# Altium footprint library dg.PcbLib: 57 footprints (part 1 of 4)
Each footprint in its own frame and in the unit in brackets; x right, y up, seen from the top. Pads: shape width x height; smd on the part's side, far side on the other; paste and mask are expansions set on the pad; w line width, h text height; cw(c..) or ccw(c..) is an arc to the next point about the centre after c.
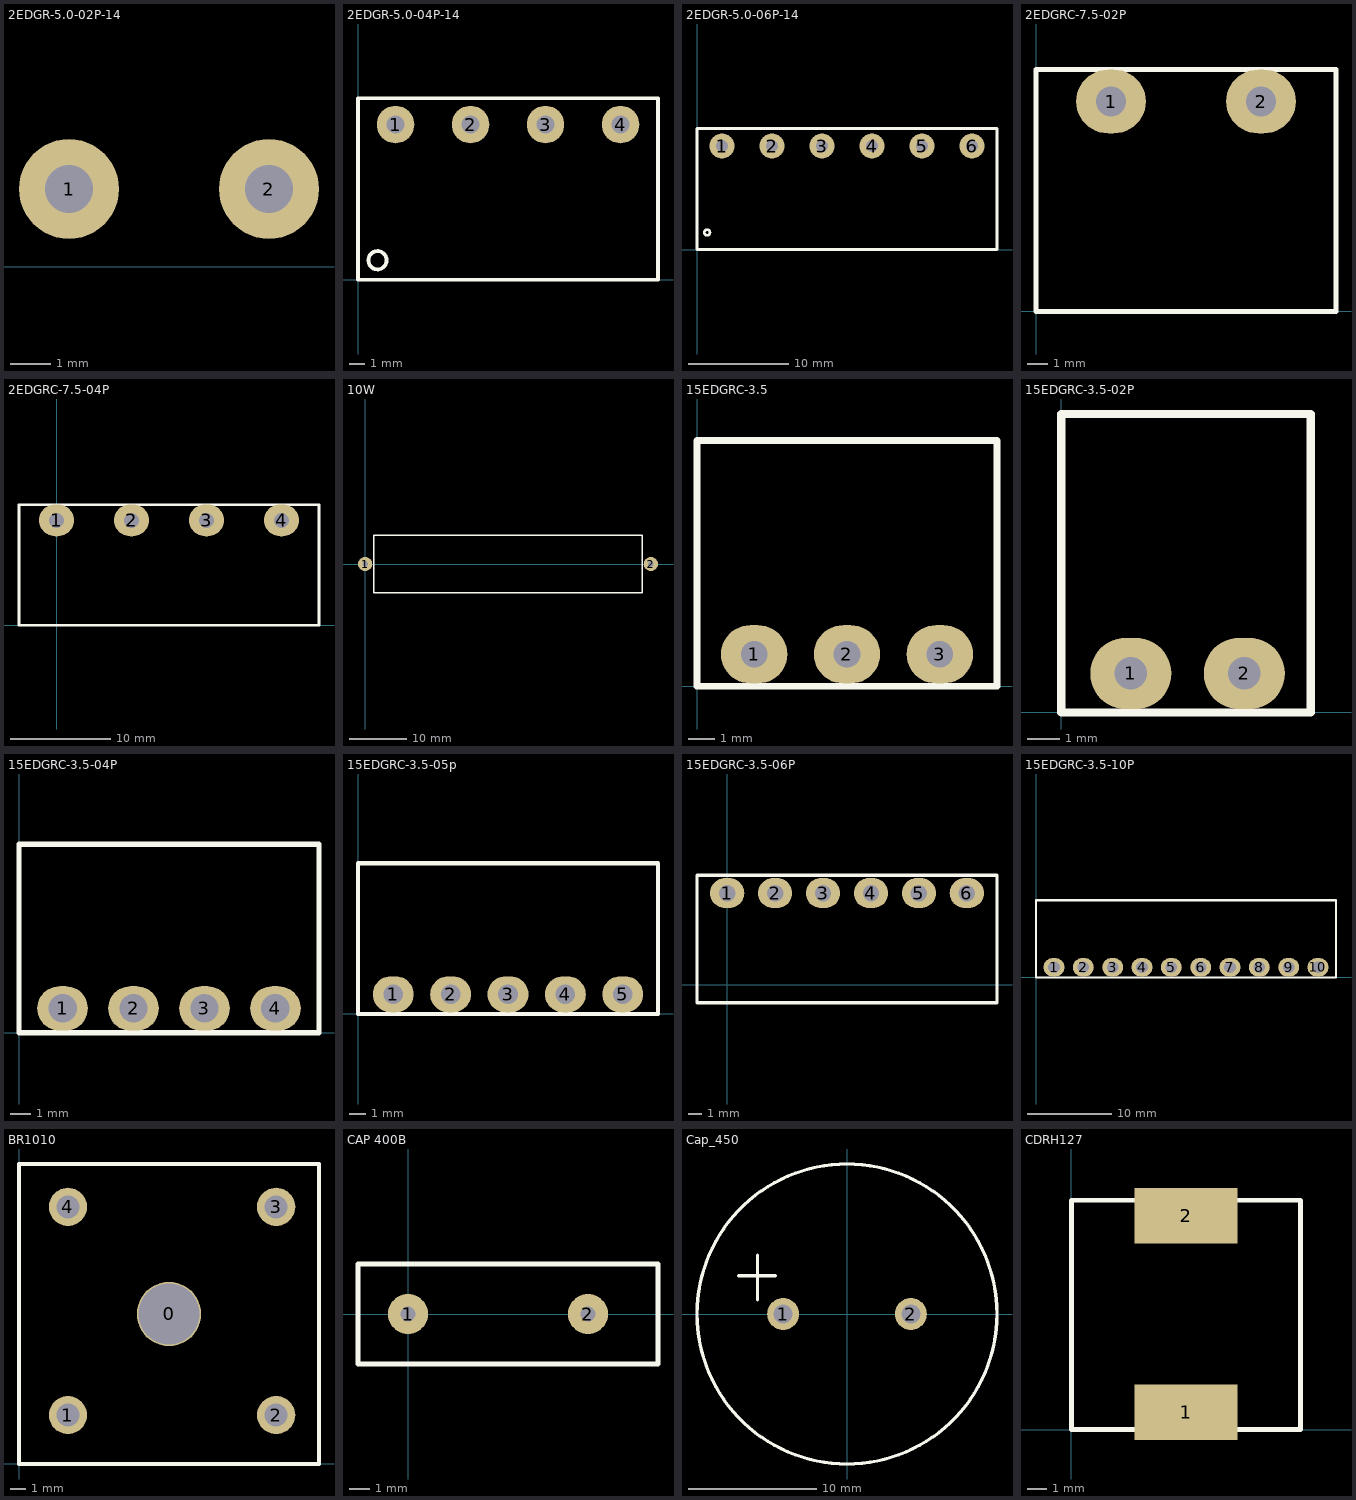
[diagram p0: the footprints below, top view; thin cyan lines are the x and y axes]

## 2EDGR-5.0-02P-14 [mm]
height 7.8
pads (2):
  round 2.5 hole 1.2: 1(2.5,1.95) 2(7.5,1.95)

## 2EDGR-5.0-04P-14 [mm]
height 7.8
pads (4):
  round 2.5 hole 1.2: 1(2.5,10.35) 2(7.5,10.35) 3(12.5,10.35) 4(17.5,10.35)
Top Overlay:
  circle w0.254: c1.3,1.3 r0.608
  lines w0.254: 0,0 0,12.1 20,12.1 20,0 0,0

## 2EDGR-5.0-06P-14 [mm]
height 7.8
pads (6):
  round 2.5 hole 1.2: 1(2.5,10.35) 2(7.5,10.35) 3(12.5,10.35) 4(17.5,10.35) 5(22.5,10.35) 6(27.5,10.35)
Top Overlay:
  circle w0.254: c1.017,1.7 r0.283
  lines w0.254: 0,0 30,0 30,12.1 0,12.1 0,0

## 2EDGRC-7.5-02P [mm]
height 8.3
pads (2):
  oval 3.5x3.2 hole 1.5: 1(3.75,10.5) 2(11.25,10.5)
Top Overlay:
  lines w0.254: 0,0 15,0 15,12.1 0,12.1 0,0

## 2EDGRC-7.5-04P [mm]
height 8.2
pads (4):
  oval 3.5x3.2 hole 1.5: 1(0,10.5) 2(7.5,10.5) 3(15,10.5) 4(22.5,10.5)
Top Overlay:
  lines w0.254: -3.75,0 26.25,0 26.25,12.05 -3.75,12.05 -3.75,0

## 10W [mm]
height 10
pads (2):
  round 2.5 hole 1: 1(0,0) 2(50,0)
Top Overlay:
  lines w0.254: 1.5,-5 48.5,-5 48.5,5 1.5,5 1.5,-5

## 15EDGRC-3.5 [mm]
height 8
pads (3):
  oval 2.5x2.2 hole 1: 1(2.15,1.2) 2(5.65,1.2) 3(9.15,1.2)
Top Overlay:
  lines w0.254: 0,0 11.3,0 11.3,9.25 0,9.25 0,0

## 15EDGRC-3.5-02P [mm]
height 10
pads (2):
  oval 2.5x2.2 hole 1: 1(2.15,1.2) 2(5.65,1.2)
Top Overlay:
  lines w0.254: 0,0 0,9.2 7.7,9.2 7.7,0 0,0

## 15EDGRC-3.5-04P [mm]
height 10
pads (4):
  oval 2.5x2.2 hole 1.4: 1(2.15,1.2) 2(5.65,1.2) 3(9.15,1.2) 4(12.65,1.2)
Top Overlay:
  lines w0.254: 0,0 14.8,0 14.8,9.3 0,9.3 0,0

## 15EDGRC-3.5-05p [mm]
height 7
pads (5):
  oval 2.5x2.2 hole 1.2: 1(2.15,1.2) 2(5.65,1.2) 3(9.15,1.2) 4(12.65,1.2) 5(16.15,1.2)
Top Overlay:
  lines w0.254: 0,0 18.3,0 18.3,9.2 0,9.2 0,0

## 15EDGRC-3.5-06P [mm]
height 7
pads (6):
  oval 2.5x2.2 hole 1.2: 1(0,6.7) 2(3.5,6.7) 3(7,6.7) 4(10.5,6.7) 5(14,6.7) 6(17.5,6.7)
Top Overlay:
  lines w0.254: -2.2,-1.3 19.7,-1.3 19.7,8 -2.2,8 -2.2,-1.3

## 15EDGRC-3.5-10P [mm]
height 10
pads (10):
  oval 2.5x2.2 hole 1.4: 1(2.15,1.2) 2(5.65,1.2) 3(9.15,1.2) 4(12.65,1.2) 5(16.15,1.2) 6(19.65,1.2) 7(23.15,1.2) 8(26.65,1.2) 9(30.15,1.2) 10(33.65,1.2)
Top Overlay:
  lines w0.254: 0,0 35.8,0 35.8,9.2 0,9.2 0,0

## BR1010 [mm]
height 6
pads (5):
  round 4.2 hole 4: 0(9.8,9.8)
  round 2.5 hole 1.5: 1(3.2,3.2) 2(16.8,3.2) 3(16.8,16.8) 4(3.2,16.8)
Top Overlay:
  lines w0.254: 0,0 0,19.6 19.6,19.6 19.6,0 0,0

## CAP 400B [mm]
height 10
pads (2):
  round 2 hole 0.762: 1(0,0) 2(9,0)
Top Overlay:
  lines w0.254: -2.5,-2.5 -2.5,2.5 12.5,2.5 12.5,-2.5 -2.5,-2.5

## Cap_450 [mm]
height 26
pads (2):
  round 2.5 hole 1.5: 1(-5,0) 2(5,0)
Top Overlay:
  circle w0.254: c0,0 r11.739
  lines w0.254: -8.5,3 -5.6,3 ; -7,1.1 -7,4.6

## CDRH127 [mm]
height 8
pads (2):
  rect 5.4x2.9 smd: 1(6,0.9) 2(6,11.2)
Top Overlay:
  lines w0.254: 0,0 0,12 12,12 12,0 0,0